# EAGLE library part 8080 (library micro-intel)
MICROCOMPUTER/PERIPHERAL DEVICE
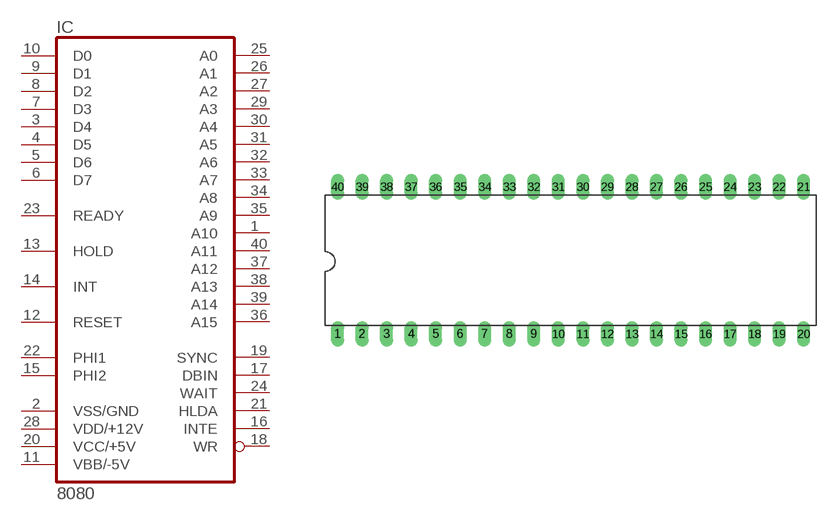
[diagram p56: symbol with the pads of DIL40; footprint DIL40]

Designator prefix IC

## 8080 (OC_FARNELL: unknown; OC_NEWARK: unknown)  [DIL40]
1  A10  out
2  VSS/GND  pwr
3  D4
4  D5
5  D6
6  D7
7  D3
8  D2
9  D1
10  D0
11  VBB/-5V  pwr
12  RESET  in
13  HOLD  in
14  INT  in
15  PHI2  in
16  INTE  out
17  DBIN  out
18  WR  out
19  SYNC  out
20  VCC/+5V  pwr
21  HLDA  out
22  PHI1  in
23  READY  in
24  WAIT  out
25  A0  out
26  A1  out
27  A2  out
28  VDD/+12V  pwr
29  A3  out
30  A4  out
31  A5  out
32  A6  out
33  A7  out
34  A8  out
35  A9  out
36  A15  out
37  A12  out
38  A13  out
39  A14  out
40  A11  out

## Footprint DIL40 (pad centres in mm)
Dual In Line Package
drill 0.813 long: 1 -24.13,-7.62; 2 -21.59,-7.62; 3 -19.05,-7.62; 4 -16.51,-7.62; 5 -13.97,-7.62; 6 -11.43,-7.62; 7 -8.89,-7.62; 8 -6.35,-7.62; 9 -3.81,-7.62; 10 -1.27,-7.62; 11 1.27,-7.62; 12 3.81,-7.62; 13 6.35,-7.62; 14 8.89,-7.62; 15 11.43,-7.62; 16 13.97,-7.62; 17 16.51,-7.62; 18 19.05,-7.62; 19 21.59,-7.62; 20 24.13,-7.62; 21 24.13,7.62; 22 21.59,7.62; 23 19.05,7.62; 24 16.51,7.62; 25 13.97,7.62; 26 11.43,7.62; 27 8.89,7.62; 28 6.35,7.62; 29 3.81,7.62; 30 1.27,7.62; 31 -1.27,7.62; 32 -3.81,7.62; 33 -6.35,7.62; 34 -8.89,7.62; 35 -11.43,7.62; 36 -13.97,7.62; 37 -16.51,7.62; 38 -19.05,7.62; 39 -21.59,7.62; 40 -24.13,7.62